# EAGLE library part CONN-8 (library parts)
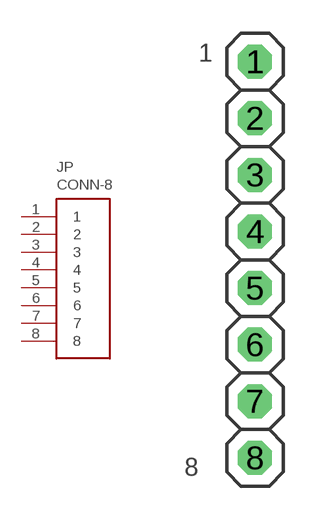
[diagram p4: symbol with the pads of 1X8; footprint 1X8]

Designator prefix JP

## CONN-8  [1X8]
1  1  pas
2  2  pas
3  3  pas
4  4  pas
5  5  pas
6  6  pas
7  7  pas
8  8  pas

## Footprint 1X8 (pad centres in mm)
drill 1.016 octagon: 1 0,0; 2 0,-2.54; 3 0,-5.08; 4 0,-7.62; 5 0,-10.16; 6 0,-12.7; 7 0,-15.24; 8 0,-17.78